# EAGLE library part LM2574 (library isb_supply)
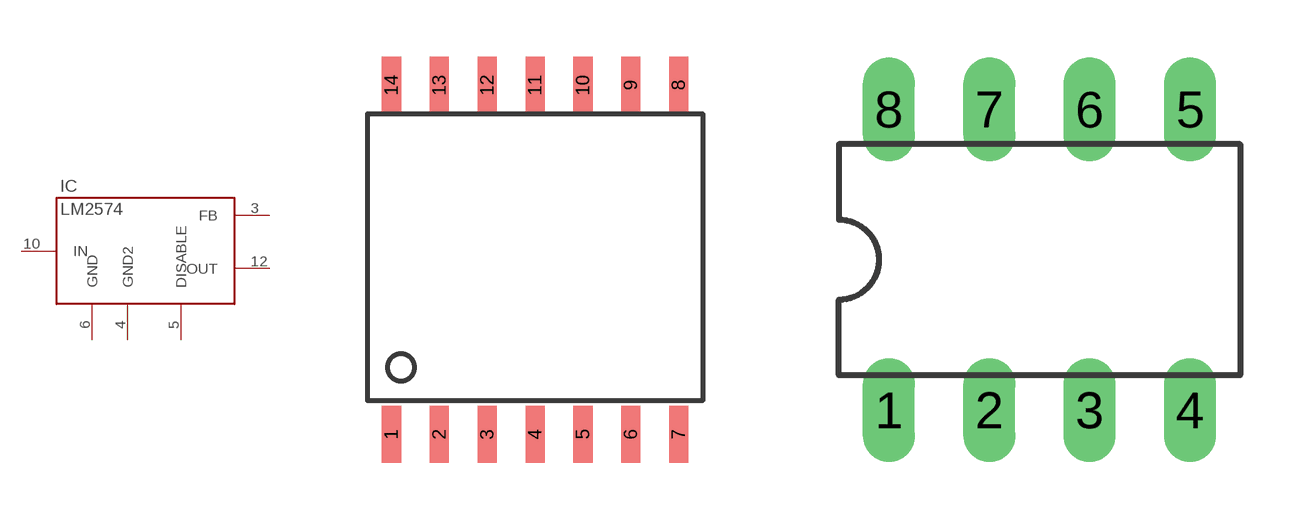
[diagram p0: symbol with the pads of 14WM; footprints 14WM, DIL08]

Designator prefix IC

## LM257414WM  [14WM]
3  FB  pwr
4  GND2  pwr
5  DISABLE  in
6  GND  pwr
10  IN  pwr
12  OUT  pwr

## LM2574DIL08  [DIL08]
1  FB  pwr
2  GND2  pwr
3  DISABLE  in
4  GND  pwr
5  IN  pwr
7  OUT  pwr

## Footprint 14WM (pad centres in mm)
smd 0.508 x 1.524: 1 -3.175,-4.699; 2 -1.905,-4.699; 3 -0.635,-4.699; 4 0.635,-4.699; 5 1.905,-4.699; 6 3.175,-4.699; 7 4.445,-4.699; 8 4.445,4.572; 9 3.175,4.572; 10 1.905,4.572; 11 0.635,4.572; 12 -0.635,4.572; 13 -1.905,4.572; 14 -3.175,4.572

## Footprint DIL08 (pad centres in mm)
Dual In Line Package
drill 0.813 long: 1 -3.81,-3.81; 2 -1.27,-3.81; 3 1.27,-3.81; 4 3.81,-3.81; 5 3.81,3.81; 6 1.27,3.81; 7 -1.27,3.81; 8 -3.81,3.81